# Altium schematic symbol library HMC5883L.SchLib: 1 symbol
Pins are listed as number, name and electrical type; pins without a type are passive.

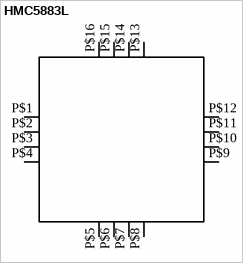
[diagram p0: symbol HMC5883L]

## HMC5883L
designator U?  (value not drawn)
Value: *
footprint HW_LCC16_3X3_HMC5883L(Primary)
pins: P$1 SCL (io), P$2 VDD (io), P$3 NC@1 (io), P$4 S1 (io), P$5 NC@2 (io), P$6 NC@3 (io), P$7 NC@4 (io), P$8 SETP (io), P$9 GND@1 (io), P$10 C1 (io), P$11 GND@2 (io), P$12 SETC (io), P$13 VDDIO (io), P$14 NC@5 (io), P$15 DRDY (io), P$16 SDA (io)